# Altium schematic symbol library Schlib1.SchLib: 33 symbols
Pins are listed as number, name and electrical type; pins without a type are passive.

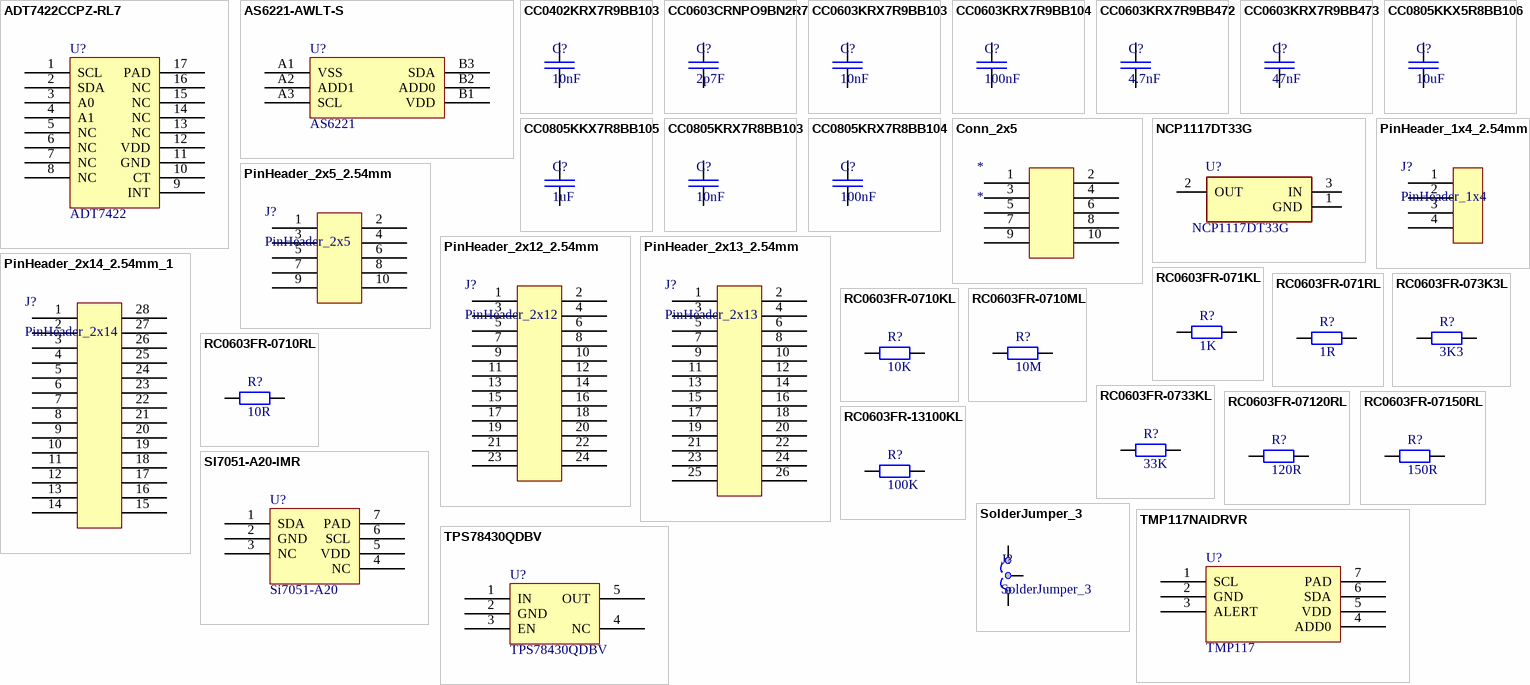
[diagram p0: symbols ADT7422CCPZ-RL7 to TPS78430QDBV]

## ADT7422CCPZ-RL7
designator U?, comment ADT7422
ADT7422 Temperature Sensor, ±0.1°C Accuracy, 16b, Digital I2C / -40°C bis 125°C 16-LFCSP-WQ (4x4); Supplier 1: Mouser; Supplier Part Number 1: 584-ADT7422CCPZ-RL7; Supplier 2: Digi-Key; Supplier Part Number 2: 505-ADT7422CCPZ-RL7CT-ND
footprint ADT7422_QFN
pins: 1 SCL, 2 SDA, 3 A0, 4 A1, 5 NC, 6 NC, 7 NC, 8 NC, 9 INT, 10 CT, 11 GND, 12 VDD, 13 NC, 14 NC, 15 NC, 16 NC, 17 PAD

## AS6221-AWLT-S
designator U?, comment AS6221
AS6221 Temperature Sensor Digital -40°C ~ 125°C 16b 6-WLCSP (1.5x1.03); Supplier 1: Mouser; Supplier Part Number 1: 985-AS6221-AWLT-S; Supplier 2: Digi-Key; Supplier Part Number 2: 4991-AS6221-AWLT-SCT-ND
footprint AS6221_BGA
pins: A1 VSS, A2 ADD1, A3 SCL, B1 VDD, B2 ADD0, B3 SDA

## CC0402KRX7R9BB103
designator C?, comment 10nF
CAP 10nF SM0402 X7R 50V YAGEO CC2; Manufacturer Part Number: CC0603KRX7R9BB103; Tolerance (%): 10; Voltage Rating (Volts): 50; Category: Capacitor; Manufacturer: Yageo; Package: 0603; Value: 10nF; ComponentLink1URL: http://www.yageo.com; ComponentLink1Description: Manufacturer Website; Supplier 1: Farnell; Supplier Part Number 1: 3369167; Supplier 2: Mouser; Supplier Part Number 2: 603-CC402KRX7R9BB103; Supplier 3: Digi-Key; Supplier Part Number 3: 311-1349-1-ND
footprint CAP_SM0402_YAGEOCC2_N (Capacitor, Yageo CC Class2, SM0402, IPC Medium Density)
pins: 1, 2

## CC0603CRNPO9BN2R7
designator C?, comment 2p7F
CAP 2.7pF (2p7F) SM0603 NPO 50V YAGEO CC2; Manufacturer Part Number: CC0603CRNPO9BN2R7; Tolerance (%): 10; Voltage Rating (Volts): 50; Category: Capacitor; Manufacturer: Yageo; Package: 0603; Value: 2p7F; Supplier Part Number 1: 721890; Supplier 1: Farnell; ComponentLink1URL: http://www.yageo.com; ComponentLink1Description: Manufacturer Website; Supplier 2: Digi-Key
footprint CAP_SM0603_YAGEOCC2_N (Capacitor, Yageo CC Class2, SM0603, IPC Medium Density)
pins: 1, 2

## CC0603KRX7R9BB103
designator C?, comment 10nF
CAP 10nF SM0603 X7R 50V YAGEO CC2; Manufacturer Part Number: CC0603KRX7R9BB103; Tolerance (%): 10; Voltage Rating (Volts): 50; Category: Capacitor; Manufacturer: Yageo; Package: 0603; Value: 10nF; Supplier Part Number 1: 722236; Supplier 1: Farnell; ComponentLink1URL: http://www.yageo.com; ComponentLink1Description: Manufacturer Website; Supplier 2: Digi-Key; Supplier Part Number 2: 311-1085-1-ND
footprint CAP_SM0603_YAGEOCC2_N (Capacitor, Yageo CC Class2, SM0603, IPC Medium Density)
pins: 1, 2

## CC0603KRX7R9BB104
designator C?, comment 100nF
CAP 100nF SM0603 X7R 50V YAGEO CC2; Manufacturer Part Number: CC0603KRX7R9BB104; Tolerance (%): 10; Voltage Rating (Volts): 50; Category: Capacitor; Manufacturer: Yageo; Package: 0603; Value: 100nF; ComponentLink1URL: http://www.yageo.com; ComponentLink1Description: Manufacturer Website; Supplier 1: Farnell; Supplier Part Number 1: 1362556; Supplier 2: Mouser; Supplier Part Number 2: 603-CC603KRX7R9BB104
footprint CAP_SM0603_YAGEOCC2_N (Capacitor, Yageo CC Class2, SM0603, IPC Medium Density)
pins: 1, 2

## CC0603KRX7R9BB472
designator C?, comment 4.7nF
CAP 4.7nF SM0603 X7R 50V YAGEO CC2; Manufacturer Part Number: CC0603KRX7R9BB223; Tolerance (%): 10; Voltage Rating (Volts): 50; Category: Capacitor; Manufacturer: Yageo; Package: 0603; Value: 4.7nF; ComponentLink1URL: http://www.yageo.com; ComponentLink1Description: Manufacturer Website; Supplier 1: Digi-Key; Supplier Part Number 1: 311-1083-1-ND; Supplier 2: Digi-Key; Supplier Part Number 2: 311-1083-6-ND; Supplier 3: Mouser; Supplier Part Number 3: 603-C0603KRX7R9BB472
footprint CAP_SM0603_YAGEOCC2_N (Capacitor, Yageo CC Class2, SM0603, IPC Medium Density)
pins: 1, 2

## CC0603KRX7R9BB473
designator C?, comment 47nF
CAP 47nF SM0603 X7R 50V YAGEO CC2; Manufacturer Part Number: CC0603KRX7R9BB223; Tolerance (%): 10; Voltage Rating (Volts): 50; Category: Capacitor; Manufacturer: Yageo; Package: 0603; Value: 47nF; ComponentLink1URL: http://www.yageo.com; ComponentLink1Description: Manufacturer Website; Supplier 1: Digi-Key; Supplier Part Number 1: 311-1427-1-ND; Supplier 2: Digi-Key; Supplier Part Number 2: 311-1427-6-ND; Supplier 3: Mouser; Supplier Part Number 3: 603-C0603KRX7R9BB473
footprint CAP_SM0603_YAGEOCC2_N (Capacitor, Yageo CC Class2, SM0603, IPC Medium Density)
pins: 1, 2

## CC0805KKX5R8BB106
designator C?, comment 10uF
CAP 10uF SM0805 X5R 16V YAGEO CC2; Manufacturer Part Number: CC0805KKX7R8BB225; Tolerance (%): 10; Voltage Rating (Volts): 25; Category: Capacitor; Manufacturer: Yageo; Package: 0805; Value: 10uF; Supplier Part Number 1: 1458904; Supplier 1: Farnell; ComponentLink1URL: http://www.yageo.com; ComponentLink1Description: Manufacturer Website; Supplier 2: Digi-Key
footprint CAP_SM0805_YAGEOCC2_N (Capacitor, Yageo CC Class2, SM0805, IPC Medium Density)
pins: 1, 2

## CC0805KKX7R8BB105
designator C?, comment 1uF
CAP 1uF SM0805 X7R 25V YAGEO CC2; Manufacturer Part Number: CC0805KKX7R8BB105; Tolerance (%): 10; Voltage Rating (Volts): 25; Category: Capacitor; Manufacturer: Yageo; Package: 0805; Value: 1uF; ComponentLink1URL: http://www.yageo.com; ComponentLink1Description: Manufacturer Website; Supplier 1: Farnell; Supplier Part Number 1: 1458903; Supplier 2: Digi-Key; Supplier Part Number 2: 311-1456-1-ND; Supplier 3: Mouser; Supplier Part Number 3: 603-CC805KKX7R8BB105
footprint CAP_SM0805_YAGEOCC2_N (Capacitor, Yageo CC Class2, SM0805, IPC Medium Density)
pins: 1, 2

## CC0805KRX7R8BB103
designator C?, comment 10nF
CAP 10nF SM0805 X7R 25V YAGEO CC2; Manufacturer Part Number: CC0805KRX7R8BB103; Tolerance (%): 10; Voltage Rating (Volts): 25; Category: Capacitor; Manufacturer: Yageo; Package: 0805; Value: 10nF; Supplier Part Number 1: 3019767; Supplier 1: Farnell; ComponentLink1URL: http://www.yageo.com; ComponentLink1Description: Manufacturer Website
footprint CAP_SM0805_YAGEOCC2_N (Capacitor, Yageo CC Class2, SM0805, IPC Medium Density)
pins: 1, 2

## CC0805KRX7R8BB104
designator C?, comment 100nF
CAP 100nF SM0805 X7R 25V YAGEO CC2; Manufacturer Part Number: CC0805KRX7R8BB104; Tolerance (%): 10; Voltage Rating (Volts): 25; Category: Capacitor; Manufacturer: Yageo; Package: 0805; Value: 100nF; ComponentLink1URL: http://www.yageo.com; ComponentLink1Description: Manufacturer Website; Supplier 1: Farnell; Supplier Part Number 1: 644249; Supplier 2: Digi-Key; Supplier Part Number 2: 311-1141-1-ND; Supplier 3: Mouser; Supplier Part Number 3: 603-CC805KRX7R8BB104
footprint CAP_SM0805_YAGEOCC2_N (Capacitor, Yageo CC Class2, SM0805, IPC Medium Density)
pins: 1, 2

## Conn_2x5
designator *
pins: 1, 2, 3, 4, 5, 6, 7, 8, 9, 10

## NCP1117DT33G
designator U?
Linear Voltage Regulator IC Positive Fixed 1 Output 1A DPAK; Manufacturer_Name: onsemi; Geometry.Height: 2.51mm; Mouser Part Number: 863-NCP1117DT33G; Mouser Price/Stock: https://www.mouser.co.uk/ProductDetail/onsemi/NCP1117DT33G?qs=Gev%252BmEvV0ib8cFCgG6Q0fQ%3D%3D; Manufacturer_Part_Number: NCP1117DT33G; Datasheet Link: https://www.onsemi.com/pdf/datasheet/ncp1117-d.pdf; Supplier 1: Mouser; Supplier Part Number 1: 863-NCP1117DT33G; Supplier 2: Digi-Key; Supplier Part Number 2: NCP1117DT33GOS-ND
footprint NCP1117DT33G
pins: 1 GND, 2 OUT, 3 IN

## PinHeader_1x4_2.54mm
designator J?, comment PinHeader_1x4
PinHeader_1x4 2.54mm Pitch
footprint PinHeader_1x4_2.54mm (Footprint not found)
pins: 1, 2, 3, 4

## PinHeader_2x5_2.54mm
designator J?, comment PinHeader_2x5
PinHeader_2x5 2.54mm Pitch
footprint PinHeader_2x5_2.54mm (Footprint not found)
pins: 1, 2, 3, 4, 5, 6, 7, 8, 9, 10

## PinHeader_2x12_2.54mm
designator J?, comment PinHeader_2x12
PinHeader_2x12 2.54mm Pitch
footprint PinHeader_2x12_2.54mm
pins: 1, 2, 3, 4, 5, 6, 7, 8, 9, 10, 11, 12, 13, 14, 15, 16, 17, 18, 19, 20, 21, 22, 23, 24

## PinHeader_2x13_2.54mm
designator J?, comment PinHeader_2x13
PinHeader_2x13 2.54mm Pitch
footprint PinHeader_2x13_2.54mm (Footprint not found)
pins: 1, 2, 3, 4, 5, 6, 7, 8, 9, 10, 11, 12, 13, 14, 15, 16, 17, 18, 19, 20, 21, 22, 23, 24, 25, 26

## PinHeader_2x14_2.54mm_1
designator J?, comment PinHeader_2x14
PinHeader_2x14 2.54mm Pitch
footprint PinHeader_2x14_2.54mm (Footprint not found)
pins: 1, 2, 3, 4, 5, 6, 7, 8, 9, 10, 11, 12, 13, 14, 15, 16, 17, 18, 19, 20, 21, 22, 23, 24, 25, 26, 27, 28

## RC0603FR-071KL
designator R?, comment 1K
RES 1K SM0603 YAGEO RC_L; Manufacturer Part Number: RC0603FR-071KL; Power (Watts): 0.1; Resistance (Ohms): 1000; Tolerance (%): 1; Category: Resistor; Manufacturer: Yageo; Package: 0603; Value: 1K; Supplier Part Number 1: 9238484; Supplier 1: Farnell; ComponentLink1URL: http://www.yageo.com; ComponentLink1Description: Manufacturer Website; Supplier 2: Digi-Key; Supplier Part Number 2: 311-1.00KHRCT-ND
footprint RES_SM0603_YAGEORC_N (Resistor, Yageo RC_L, SM0603, IPC Medium Density)
pins: 1, 2

## RC0603FR-071RL
designator R?, comment 1R
RES 1R SM0603YAGEO RC_L; Manufacturer: Yageo; Manufacturer Part Number: RC0805FR-0710RL; Power (Watts): 0.125; Resistance (Ohms): 10; Tolerance (%): 1; Category: Resistor; Package: 0805; Value: 1R; ComponentLink1Description: Manufacturer Website; ComponentLink1URL: http://www.yageo.com; Supplier 1: Digi-Key; Supplier Part Number 1: 311-1.00HRCT-ND; Supplier 2: Digi-Key; Supplier Part Number 2: 311-1.00HRDKR-ND; Supplier 3: Mouser; Supplier Part Number 3: 603-RC0603FR-071RL
footprint RES_SM0603_YAGEORC_N (Resistor, Yageo RC_L, SM0603, IPC Medium Density)
pins: 1, 2

## RC0603FR-073K3L
designator R?, comment 3K3
RES 3.3K SM0603 YAGEO RC_L; Manufacturer Part Number: RC0603FR-0710KL; Power (Watts): 0.1; Resistance (Ohms): 10000; Tolerance (%): 1; Category: Resistor; Manufacturer: Yageo; Package: 0603; Value: 3K3; ComponentLink1URL: http://www.yageo.com; ComponentLink1Description: Manufacturer Website; Supplier 1: Future Electronics; Supplier Part Number 1: 6497630; Supplier 2: Rs; Supplier Part Number 2: 1995564; Supplier 3: Rs; Supplier Part Number 3: 1995564P; Supplier 4: Rs; Supplier Part Number 4: 1995563; Supplier 5: Avnet; Supplier Part Number 5: RC0603FR-073K3L; Supplier 6: Arrow Electronics; Supplier Part Number 6: RC0603FR-073K3L; Supplier 7: Farnell; Supplier Part Number 7: 9238549; Supplier 8: Farnell; Supplier Part Number 8: 9238549RL; Supplier 9: Mouser; Supplier Part Number 9: 603-RC0603FR-073K3L; Supplier 10: Digikey; Supplier Part Number 10: 311-3.30KHRCT-ND; Supplier 11: Digikey; Supplier Part Number 11: 311-3.30KHRDKR-ND; Supplier 12: Digikey; Supplier Part Number 12: 311-3.30KHRTR-ND
footprint RES_SM0603_YAGEORC_N (Resistor, Yageo RC_L, SM0603, IPC Medium Density)
pins: 1, 2

## RC0603FR-0710KL
designator R?, comment 10K
RES 10K SM0603 YAGEO RC_L; Manufacturer Part Number: RC0603FR-0710KL; Power (Watts): 0.1; Resistance (Ohms): 10000; Tolerance (%): 1; Category: Resistor; Manufacturer: Yageo; Package: 0603; Value: 10K; Supplier Part Number 1: 9238603; Supplier 1: Farnell; ComponentLink1URL: http://www.yageo.com; ComponentLink1Description: Manufacturer Website; Supplier 2: Digi-Key; Supplier Part Number 2: 311-10.0KHRCT-ND
footprint RES_SM0603_YAGEORC_N (Resistor, Yageo RC_L, SM0603, IPC Medium Density)
pins: 1, 2

## RC0603FR-0710ML
designator R?, comment 10M
RES 10M SM0603 YAGEO RC_L; Manufacturer Part Number: RC0603FR-0710ML; Power (Watts): 0.1; Resistance (Ohms): 10000000; Tolerance (%): 1; Category: Resistor; Manufacturer: Yageo; Package: 0603; Value: 10M; Supplier Part Number 1: 9238964; Supplier 1: Farnell; ComponentLink1URL: http://www.yageo.com; ComponentLink1Description: Manufacturer Website; Supplier 2: Digi-Key; Supplier Part Number 2: 311-10.0MHRCT-ND
footprint RES_SM0603_YAGEORC_N (Resistor, Yageo RC_L, SM0603, IPC Medium Density)
pins: 1, 2

## RC0603FR-0710RL
designator R?, comment 10R
RES 10R SM0603 YAGEO RC_L; Manufacturer Part Number: RC0603FR-0710RL; Power (Watts): 0.1; Resistance (Ohms): 10; Tolerance (%): 1; Category: Resistor; Manufacturer: Yageo; Package: 0603; Value: 10R; Supplier Part Number 1: 9238247; Supplier 1: Farnell; ComponentLink1URL: http://www.yageo.com; ComponentLink1Description: Manufacturer Website; Supplier 2: Digi-Key; Supplier Part Number 2: 311-10.0HRCT-ND
footprint RES_SM0603_YAGEORC_N (Resistor, Yageo RC_L, SM0603, IPC Medium Density)
pins: 1, 2

## RC0603FR-0733KL
designator R?, comment 33K
RES 33K SM0603 YAGEO RC_L; Manufacturer Part Number: RC0603FR-0733KL; Power (Watts): 0.1; Resistance (Ohms): 33000; Tolerance (%): 1; Category: Resistor; Manufacturer: Yageo; Package: 0603; Value: 33K; Supplier Part Number 1: 9238662; Supplier 1: Farnell; ComponentLink1URL: http://www.yageo.com; ComponentLink1Description: Manufacturer Website; Supplier 2: Digi-Key; Supplier Part Number 2: 311-33.0KHRCT-ND
footprint RES_SM0603_YAGEORC_N (Resistor, Yageo RC_L, SM0603, IPC Medium Density)
pins: 1, 2

## RC0603FR-07120RL
designator R?, comment 120R
RES 120R SM0603 YAGEO RC_L; Manufacturer Part Number: RC0603FR-07120RL; Power (Watts): 0.1; Resistance (Ohms): 120; Tolerance (%): 1; Category: Resistor; Manufacturer: Yageo; Package: 0603; Value: 120R; Supplier Part Number 1: 9238379; Supplier 1: Farnell; ComponentLink1URL: http://www.yageo.com; ComponentLink1Description: Manufacturer Website; Supplier 2: Digi-Key; Supplier Part Number 2: 311-120HRCT-ND
footprint RES_SM0603_YAGEORC_N (Resistor, Yageo RC_L, SM0603, IPC Medium Density)
pins: 1, 2

## RC0603FR-07150RL
designator R?, comment 150R
RES 150R SM0603 YAGEO RC_L; Manufacturer Part Number: RC0603FR-07150RL; Power (Watts): 0.1; Resistance (Ohms): 150; Tolerance (%): 1; Category: Resistor; Manufacturer: Yageo; Package: 0603; Value: 150R; Supplier Part Number 1: 9238387; Supplier 1: Farnell; ComponentLink1URL: http://www.yageo.com; ComponentLink1Description: Manufacturer Website; Supplier 2: Digi-Key; Supplier Part Number 2: 311-150HRCT-ND
footprint RES_SM0603_YAGEORC_N (Resistor, Yageo RC_L, SM0603, IPC Medium Density)
pins: 1, 2

## RC0603FR-13100KL
designator R?, comment 100K
RES 100K SM0603 YAGEO RC_L; Manufacturer Part Number: RC0603FR-13100KL; Power (Watts): 0.1; Resistance (Ohms): 100000; Tolerance (%): 1; Category: Resistor; Manufacturer: Yageo; Package: 0603; Value: 100K; Supplier Part Number 1: 2309107; Supplier 1: Farnell; ComponentLink1URL: http://www.yageo.com; ComponentLink1Description: Manufacturer Website; Supplier 2: Digi-Key
footprint RES_SM0603_YAGEORC_N (Resistor, Yageo RC_L, SM0603, IPC Medium Density)
pins: 1, 2

## SI7051-A20-IMR
designator U?, comment Si7051-A20
Si7051-A20 Temperature Sensor ±0.1°C maximum accuracy, Digital I2C, -40°C ~ 125°C 14b 6-DFN (3x3); Supplier 1: Farnell; Supplier Part Number 1: 3265013RL; Supplier 2: Mouser; Supplier Part Number 2: 634-SI7051-A20-IMR; Supplier 3: Digi-Key; Supplier Part Number 3: 336-4764-1-ND
footprint SI7050/1/2/3/4/5 (SON, 6-Leads, Body 3,00x3,00mm, Pitch 1,00mm, Thermal Pad 2,50x1,50mm, IPC Medium Density)
pins: 1 SDA, 2 GND, 3 NC, 4 NC, 5 VDD, 6 SCL, 7 PAD

## SolderJumper_3
designator J?
footprint SolderJumper3_1
pins: 1, 2, 3

## TMP117NAIDRVR
designator U?, comment TMP117
TMP117 High-Accuracy, Low-Power, Digital Temperature Sensor, -55°C bis 150°C, 16b 6-WSON (2x2); Supplier 1: Mouser; Supplier Part Number 1: 595-TMP117NAIDRVR; Supplier 2: Digi-Key; Supplier Part Number 2: 296-51836-6-ND
footprint TMP117(N/M)AIDRV_WSON (SON127P600-8N)
pins: 1 SCL, 2 GND, 3 ALERT, 4 ADD0, 5 VDD, 6 SDA, 7 PAD

## TPS78430QDBV
designator U?
TPS78430QDBV LDO 3.0V 300mA
footprint TPS784XXXQDBVRQ1_SOT23 (SOT23, 5-Leads, Body 2,90x2,80mm, Pitch 0,95mm, IPC Medium Density)
pins: 1 IN, 2 GND, 3 EN, 4 NC, 5 OUT